# Altium footprint library 2017-11-12_15-49-40.PcbLib: 3 footprints
Each footprint in its own frame and in the unit in brackets; x right, y up, seen from the top. Pads: shape width x height; smd on the part's side, far side on the other; paste and mask are expansions set on the pad; w line width, h text height; cw(c..) or ccw(c..) is an arc to the next point about the centre after c.
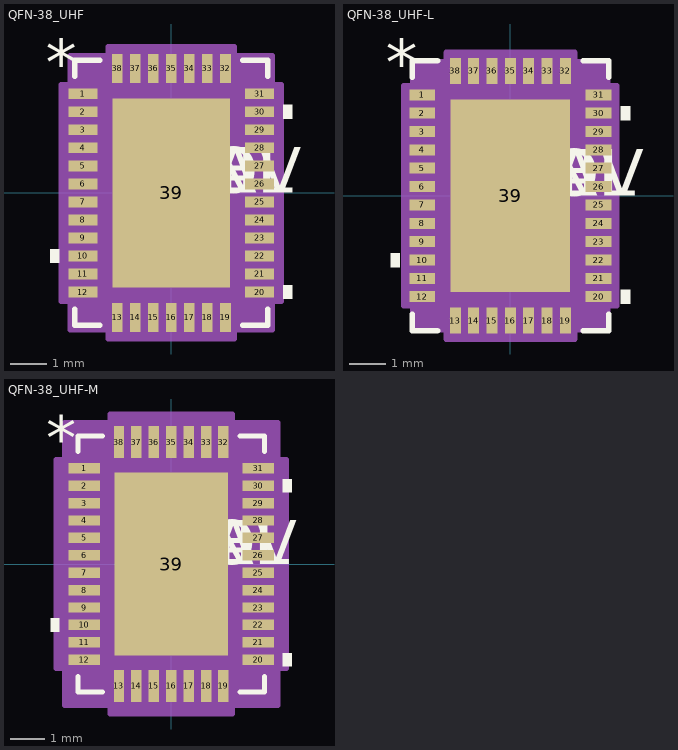
[diagram p0: the footprints below, top view; thin cyan lines are the x and y axes]

## QFN-38_UHF [mm]
pads (39):
  rect 0.805x0.3 smd: 1(-2.452,2.75) 2(-2.452,2.25) 3(-2.452,1.75) 4(-2.452,1.25) 5(-2.452,0.75) 6(-2.452,0.25) 7(-2.452,-0.25) 8(-2.452,-0.75) 9(-2.452,-1.25) 10(-2.452,-1.75) 11(-2.452,-2.25) 12(-2.452,-2.75) 20(2.452,-2.75) 21(2.452,-2.25) 22(2.452,-1.75) 23(2.452,-1.25) 24(2.452,-0.75) 25(2.452,-0.25) 26(2.452,0.25) 27(2.452,0.75) 28(2.452,1.25) 29(2.452,1.75) 30(2.452,2.25) 31(2.452,2.75)
  rect 0.3x0.805 smd: 13(-1.5,-3.452) 14(-1,-3.452) 15(-0.5,-3.452) 16(0,-3.452) 17(0.5,-3.452) 18(1,-3.452) 19(1.5,-3.452) 32(1.5,3.452) 33(1,3.452) 34(0.5,3.452) 35(0,3.452) 36(-0.5,3.452) 37(-1,3.452) 38(-1.5,3.452)
  rect 3.25x5.25 smd paste-2.612: 39(0,0)
Top Overlay:
  region: -3.109,-1.559 -3.363,-1.559 -3.363,-1.94 -3.109,-1.94
  region: 3.109,-2.559 3.363,-2.559 3.363,-2.94 3.109,-2.94
  region: 3.109,2.441 3.363,2.441 3.363,2.06 3.109,2.06
  lines w0.152: -2.677,-3.233 -2.677,-3.677 -1.983,-3.677 ; -2.677,3.233 -2.677,3.677 -1.983,3.677 ; 1.983,-3.677 2.677,-3.677 2.677,-3.233 ; 1.983,3.677 2.677,3.677 2.677,3.233
  text "*" at -3.49,3 h1.27
  text "PN" at 0,0 h1.27
  text "DEV" at 0,0 h1.27
  text "VAL" at 0,0 h1.27
  text "TOL" at 0,0 h1.27
Top Paste:
  region: -0.1,2.525 -1.525,2.525 -1.525,1.412 -0.1,1.412
  region: -0.1,1.212 -1.525,1.212 -1.525,0.1 -0.1,0.1
  region: -0.1,-0.1 -1.525,-0.1 -1.525,-1.212 -0.1,-1.212
  region: -0.1,-1.412 -1.525,-1.412 -1.525,-2.525 -0.1,-2.525
  region: 1.525,2.525 0.1,2.525 0.1,1.412 1.525,1.412
  region: 1.525,1.212 0.1,1.212 0.1,0.1 1.525,0.1
  region: 1.525,-0.1 0.1,-0.1 0.1,-1.212 1.525,-1.212
  region: 1.525,-1.412 0.1,-1.412 0.1,-2.525 1.525,-2.525
Mechanical 13:
  drawing of 161 lines, arcs and shapes, not listed
  text "*" at -2.05,3 h1.27
  text "RefDes2" at 0,0 h1.27
Mechanical 15:
  region: -1.75,-3.804 -2.804,-3.804 -2.804,-3 -3.054,-3 -3.054,3 -2.804,3 -2.804,3.804 -1.75,3.804 -1.75,4.054 1.75,4.054 1.75,3.804 2.804,3.804 2.804,3 3.054,3 3.054,-3 2.804,-3 2.804,-3.804 1.75,-3.804 1.75,-4.054 -1.75,-4.054
  lines w0.152: -3.054,-3 -2.804,-3 -2.804,-3.804 -1.75,-3.804 -1.75,-4.054 1.75,-4.054 1.75,-3.804 2.804,-3.804 2.804,-3 3.054,-3 3.054,3 2.804,3 2.804,3.804 1.75,3.804 1.75,4.054 -1.75,4.054 -1.75,3.804 -2.804,3.804 -2.804,3 -3.054,3 -3.054,-3
3D body: height 0.25, standoff 0, extent 0,0 0.254,0.254

## QFN-38_UHF-L [mm]
pads (39):
  rect 0.703x0.3 smd: 1(-2.402,2.75) 2(-2.402,2.25) 3(-2.402,1.75) 4(-2.402,1.25) 5(-2.402,0.75) 6(-2.402,0.25) 7(-2.402,-0.25) 8(-2.402,-0.75) 9(-2.402,-1.25) 10(-2.402,-1.75) 11(-2.402,-2.25) 12(-2.402,-2.75) 20(2.402,-2.75) 21(2.402,-2.25) 22(2.402,-1.75) 23(2.402,-1.25) 24(2.402,-0.75) 25(2.402,-0.25) 26(2.402,0.25) 27(2.402,0.75) 28(2.402,1.25) 29(2.402,1.75) 30(2.402,2.25) 31(2.402,2.75)
  rect 0.3x0.703 smd: 13(-1.5,-3.402) 14(-1,-3.402) 15(-0.5,-3.402) 16(0,-3.402) 17(0.5,-3.402) 18(1,-3.402) 19(1.5,-3.402) 32(1.5,3.402) 33(1,3.402) 34(0.5,3.402) 35(0,3.402) 36(-0.5,3.402) 37(-1,3.402) 38(-1.5,3.402)
  rect 3.25x5.25 smd paste-2.612: 39(0,0)
Top Overlay:
  region: -3.007,-1.559 -3.261,-1.559 -3.261,-1.94 -3.007,-1.94
  region: 3.007,-2.559 3.261,-2.559 3.261,-2.94 3.007,-2.94
  region: 3.007,2.441 3.261,2.441 3.261,2.06 3.007,2.06
  lines w0.152: -2.677,-3.233 -2.677,-3.677 -1.983,-3.677 ; -2.677,3.233 -2.677,3.677 -1.983,3.677 ; 1.983,-3.677 2.677,-3.677 2.677,-3.233 ; 1.983,3.677 2.677,3.677 2.677,3.233
  text "*" at -3.388,3 h1.27
  text "PN" at 0,0 h1.27
  text "DEV" at 0,0 h1.27
  text "VAL" at 0,0 h1.27
  text "TOL" at 0,0 h1.27
Top Paste:
  region: -0.1,2.525 -1.525,2.525 -1.525,1.412 -0.1,1.412
  region: -0.1,1.212 -1.525,1.212 -1.525,0.1 -0.1,0.1
  region: -0.1,-0.1 -1.525,-0.1 -1.525,-1.212 -0.1,-1.212
  region: -0.1,-1.412 -1.525,-1.412 -1.525,-2.525 -0.1,-2.525
  region: 1.525,2.525 0.1,2.525 0.1,1.412 1.525,1.412
  region: 1.525,1.212 0.1,1.212 0.1,0.1 1.525,0.1
  region: 1.525,-0.1 0.1,-0.1 0.1,-1.212 1.525,-1.212
  region: 1.525,-1.412 0.1,-1.412 0.1,-2.525 1.525,-2.525
Mechanical 13:
  drawing of 161 lines, arcs and shapes, not listed
  text "*" at -2.05,3 h1.27
  text "RefDes2" at 0,0 h1.27
Mechanical 15:
  region: -1.75,-3.652 -2.652,-3.652 -2.652,-3 -2.902,-3 -2.902,3 -2.652,3 -2.652,3.652 -1.75,3.652 -1.75,3.902 1.75,3.902 1.75,3.652 2.652,3.652 2.652,3 2.902,3 2.902,-3 2.652,-3 2.652,-3.652 1.75,-3.652 1.75,-3.902 -1.75,-3.902
  lines w0.152: -2.902,-3 -2.652,-3 -2.652,-3.652 -1.75,-3.652 -1.75,-3.902 1.75,-3.902 1.75,-3.652 2.652,-3.652 2.652,-3 2.902,-3 2.902,3 2.652,3 2.652,3.652 1.75,3.652 1.75,3.902 -1.75,3.902 -1.75,3.652 -2.652,3.652 -2.652,3 -2.902,3 -2.902,-3
3D body: height 0.25, standoff 0, extent 0,0 0.254,0.254

## QFN-38_UHF-M [mm]
pads (39):
  rect 0.906x0.3 smd: 1(-2.503,2.75) 2(-2.503,2.25) 3(-2.503,1.75) 4(-2.503,1.25) 5(-2.503,0.75) 6(-2.503,0.25) 7(-2.503,-0.25) 8(-2.503,-0.75) 9(-2.503,-1.25) 10(-2.503,-1.75) 11(-2.503,-2.25) 12(-2.503,-2.75) 20(2.503,-2.75) 21(2.503,-2.25) 22(2.503,-1.75) 23(2.503,-1.25) 24(2.503,-0.75) 25(2.503,-0.25) 26(2.503,0.25) 27(2.503,0.75) 28(2.503,1.25) 29(2.503,1.75) 30(2.503,2.25) 31(2.503,2.75)
  rect 0.3x0.906 smd: 13(-1.5,-3.503) 14(-1,-3.503) 15(-0.5,-3.503) 16(0,-3.503) 17(0.5,-3.503) 18(1,-3.503) 19(1.5,-3.503) 32(1.5,3.503) 33(1,3.503) 34(0.5,3.503) 35(0,3.503) 36(-0.5,3.503) 37(-1,3.503) 38(-1.5,3.503)
  rect 3.25x5.25 smd paste-2.612: 39(0,0)
Top Overlay:
  region: -3.21,-1.559 -3.464,-1.559 -3.464,-1.94 -3.21,-1.94
  region: 3.21,-2.559 3.464,-2.559 3.464,-2.94 3.21,-2.94
  region: 3.21,2.441 3.464,2.441 3.464,2.06 3.21,2.06
  lines w0.152: -2.677,-3.233 -2.677,-3.677 -1.983,-3.677 ; -2.677,3.233 -2.677,3.677 -1.983,3.677 ; 1.983,-3.677 2.677,-3.677 2.677,-3.233 ; 1.983,3.677 2.677,3.677 2.677,3.233
  text "*" at -3.591,3 h1.27
  text "PN" at 0,0 h1.27
  text "DEV" at 0,0 h1.27
  text "VAL" at 0,0 h1.27
  text "TOL" at 0,0 h1.27
Top Paste:
  region: -0.1,2.525 -1.525,2.525 -1.525,1.412 -0.1,1.412
  region: -0.1,1.212 -1.525,1.212 -1.525,0.1 -0.1,0.1
  region: -0.1,-0.1 -1.525,-0.1 -1.525,-1.212 -0.1,-1.212
  region: -0.1,-1.412 -1.525,-1.412 -1.525,-2.525 -0.1,-2.525
  region: 1.525,2.525 0.1,2.525 0.1,1.412 1.525,1.412
  region: 1.525,1.212 0.1,1.212 0.1,0.1 1.525,0.1
  region: 1.525,-0.1 0.1,-0.1 0.1,-1.212 1.525,-1.212
  region: 1.525,-1.412 0.1,-1.412 0.1,-2.525 1.525,-2.525
Mechanical 13:
  drawing of 161 lines, arcs and shapes, not listed
  text "*" at -2.05,3 h1.27
  text "RefDes2" at 0,0 h1.27
Mechanical 15:
  region: -1.75,-4.058 -3.058,-4.058 -3.058,-3 -3.308,-3 -3.308,3 -3.058,3 -3.058,4.058 -1.75,4.058 -1.75,4.308 1.75,4.308 1.75,4.058 3.058,4.058 3.058,3 3.308,3 3.308,-3 3.058,-3 3.058,-4.058 1.75,-4.058 1.75,-4.308 -1.75,-4.308
  lines w0.152: -3.308,-3 -3.058,-3 -3.058,-4.058 -1.75,-4.058 -1.75,-4.308 1.75,-4.308 1.75,-4.058 3.058,-4.058 3.058,-3 3.308,-3 3.308,3 3.058,3 3.058,4.058 1.75,4.058 1.75,4.308 -1.75,4.308 -1.75,4.058 -3.058,4.058 -3.058,3 -3.308,3 -3.308,-3
3D body: height 0.25, standoff 0, extent 0,0 0.254,0.254